# EAGLE library part BME280COMPONENTLIBRARY_BME280 (library SparkFun_BME280_Breakout_v10)
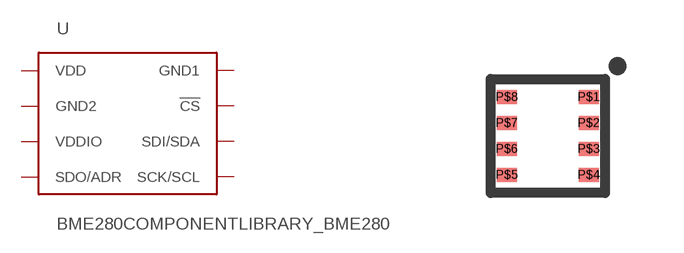
[diagram p0: symbol with the pads of BME280COMPONENTLIBRARY_BME280_LGA; footprint BME280COMPONENTLIBRARY_BME280_LGA]

Designator prefix U

## BME280COMPONENTLIBRARY_BME280 (PROD_ID: IC-13090; VALUE: BME280)  [BME280COMPONENTLIBRARY_BME280_LGA]
P$1  GND1
P$2  !CS
P$3  SDI/SDA
P$4  SCK/SCL
P$5  SDO/ADR
P$6  VDDIO
P$7  GND2
P$8  VDD

## Footprint BME280COMPONENTLIBRARY_BME280_LGA (pad centres in mm)
smd 0.5 x 0.35: P$1 1.025,0.975; P$2 1.025,0.325; P$3 1.025,-0.325; P$4 1.025,-0.975; P$5 -1.025,-0.975; P$6 -1.025,-0.325; P$7 -1.025,0.325; P$8 -1.025,0.975